# Altium footprint library CON2_JST_SH-SM2.PcbLib: 1 footprints
Each footprint in its own frame and in the unit in brackets; x right, y up, seen from the top. Pads: shape width x height; smd on the part's side, far side on the other; paste and mask are expansions set on the pad; w line width, h text height; cw(c..) or ccw(c..) is an arc to the next point about the centre after c.
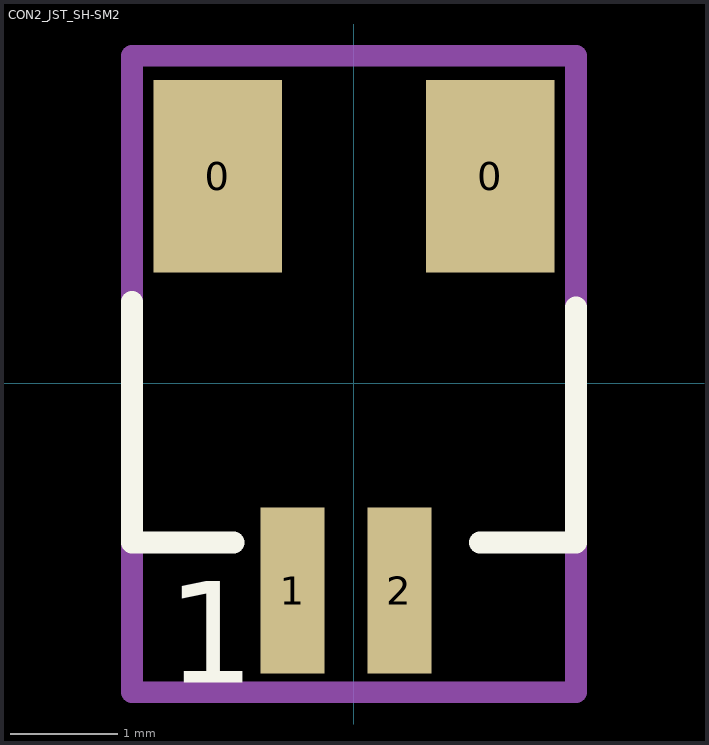
[diagram p0: the footprint, top view; thin cyan lines are the x and y axes]

## CON2_JST_SH-SM2 [mm] "1.0mm pitch"
height 2.95
pads (4):
  rect 1.2x1.8 smd: 0(-1.275,1.938) 0(1.275,1.938)
  rect 0.6x1.55 smd: 1(-0.575,-1.937) 2(0.425,-1.937)
Top Overlay:
  lines w0.203: -2.075,0.763 -2.075,-1.487 -1.125,-1.487 ; 1.175,-1.487 2.075,-1.487 2.075,0.713
  text "1" at -1.75,-2.8 h0.95
Mechanical 1:
  lines w0.203: 2.05,-2.887 0.975,-2.887 -2.075,-2.887 -2.075,-1.612 -2.075,-1.206 ; 2.05,3.063 -2.075,3.063 -2.075,0.013 ; 2.075,-2.887 2.075,3.063 ; -2.075,-1.206 -2.075,0.013 ; -2.075,-1.206 -2.075,0.013
3D body "SM02B-SRSS-TB.STEP": height 2.96, standoff 0, extent -2.025,-2.033 1.975,2.917